# Altium schematic symbol library HC_05.SchLib: 1 symbol
Pins are listed as number, name and electrical type; pins without a type are passive.

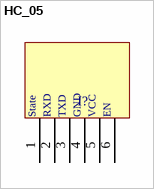
[diagram p0: symbol HC_05]

## HC_05
designator I?  (value not drawn)
footprint HPC_1x6
pins: 1 State, 2 RXD, 3 TXD, 4 GND, 5 VCC, 6 EN